# Altium schematic symbol library private_SCH.SchLib: 1 symbol
Pins are listed as number, name and electrical type; pins without a type are passive.

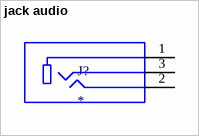
[diagram p0: symbol jack audio]

## jack audio
designator J?
footprint CUI_SJ1-3533N
pins: 1, 2, 3